# Altium schematic symbol library kmilo17pet-LT_OpAmp_LT2000.SchLib: 1710 symbols (part 9 of 75)
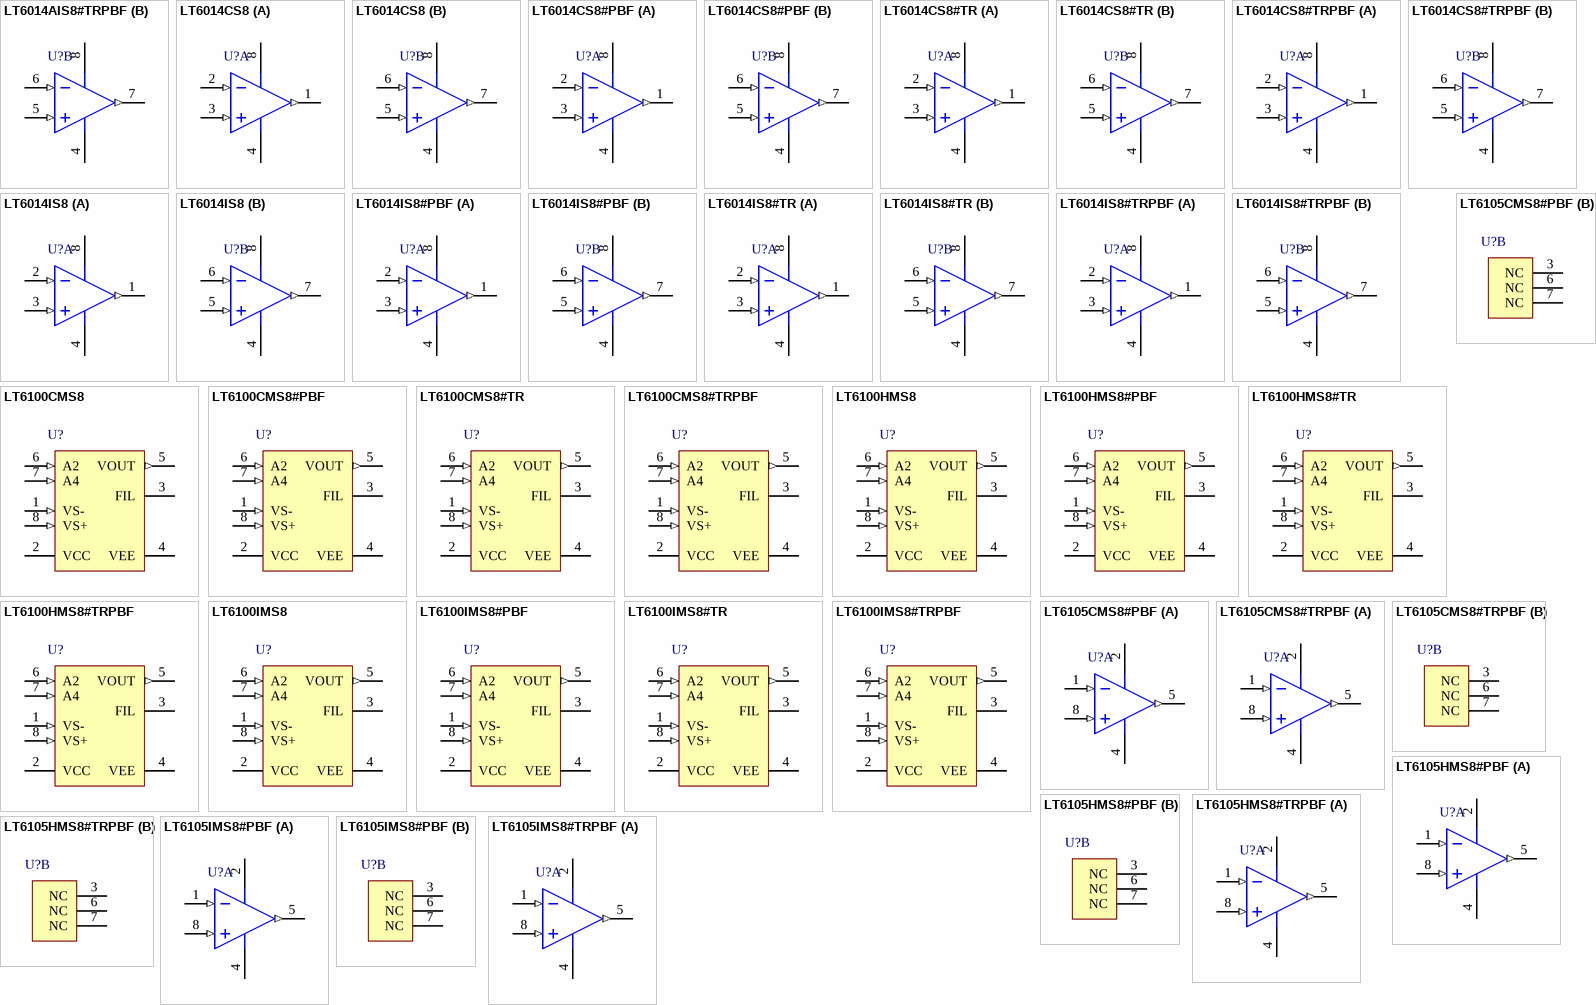
[diagram p88: symbols LT6014AIS8#TRPBF to LT6105IMS8#TRPBF]

## LT6100HMS8#TR
designator U?
Single Channel, Precision, Gain Selectable Current Sense, High Side Current Sense Operational Amplifier, 0.15 MHz Typical GBW, 2.7 to 36 V, 8-Pin SOP (MS8-8), High Temperature / Automotive, Reel; Linear Technology Part Number: LT6100; Manufacturer: Linear Technology; PartNumber: LT6100HMS8#TR; Channels (#): 1; GBW (MHz) Typical: 0.15; Is (mA) Typical: 0.06; Vos (mV) Guaranteed: 0.3; Vos (mV) Typical: 0.08; Vs Max (V): 36; Vs Min (V): 2.7; DatasheetVersion: Rev. B; PackageVersion: Rev G; PackageReference: LT-MS8-8; PackageDescription: 8-Lead Plastic Small Outline, Body 3.9 x 4.9 mm, Pitch 1.27 mm; Packing: Reel; Type: CSA; Mounting Technology: Surface Mount; ComponentLink1Description: Manufacturer URL; ComponentLink1URL: http://www.linear.com/; ComponentLink2Description: Datasheet; ComponentLink2URL: http://cds.linear.com/docs/en/datasheet/6100fb.pdf; ComponentLink3Description: Package Specification; ComponentLink3URL: http://cds.linear.com/docs/en/packaging/05081610_G_SO8.pdf
footprint LT-MS8-8_N (SOP, 8-Leads, Body 3x3mm, Pitch 0.65mm, IPC Medium Density)
footprint LT-MS8-8_L (SOP, 8-Leads, Body 3x3mm, Pitch 0.65mm, IPC High Density)
footprint LT-MS8-8_M (SOP, 8-Leads, Body 3x3mm, Pitch 0.65mm, IPC Low Density)
pins: 1 VS- (in) "Negative Sense Input Terminal. Negative sense voltage input will remain functional for voltages up to 48V. VS - is connected to an internal gain-setting resistor RG1 = 5k.", 2 VCC (power) "Supply Voltage Input. This power supply pin supplies current to both current sense amplifier and op amp.", 3 FIL "Filter Pin. Connects to an external capacitor to roll off differential noise of the system. Pole frequency f-3dB = 1/(2pRFILC), RFIL = RE + RO = 60k.", 4 VEE (power) "Negative Supply or Ground for Single Supply Operation.", 5 VOUT (out) "Voltage Output Proportional to the Magnitude of the Current Flowing Through RSENSE: VOUT = AV • (VSENSE +/- VOS) VOS is the input offset voltage. AV is the total gain of the LT6100.", 6 A2 (in) "Gain Select Pin.", 7 A4 (in) "Gain Select Pin. When Pin 7 is shorted to VEE, the total gain is 40V/V. When both Pin 6 and Pin 7 are shorted to VEE, the total gain is 50V/V. When both Pin 6 and Pin 7 are opened, the total gain is 10V/V.", 8 VS+ (in) "Positive Sense Input Terminal. Connecting a supply to VS + and a load to VS - will allow the LT6100 to monitor the current through RSENSE, refer to Figure 1. VS + is connected to an internal gain setting resistor RG2 = 5k. (See Datasheet)"

## LT6100HMS8#TRPBF
designator U?
Single Channel, Precision, Gain Selectable Current Sense, High Side Current Sense Operational Amplifier, 0.15 MHz Typical GBW, 2.7 to 36 V, 8-Pin SOP (MS8-8), High Temperature / Automotive, Pb-Free, Reel; Linear Technology Part Number: LT6100; Manufacturer: Linear Technology; PartNumber: LT6100HMS8#TRPBF; Channels (#): 1; GBW (MHz) Typical: 0.15; Is (mA) Typical: 0.06; Vos (mV) Guaranteed: 0.3; Vos (mV) Typical: 0.08; Vs Max (V): 36; Vs Min (V): 2.7; DatasheetVersion: Rev. B; PackageVersion: Rev G; PackageReference: LT-MS8-8; PackageDescription: 8-Lead Plastic Small Outline, Body 3.9 x 4.9 mm, Pitch 1.27 mm; Supplier 1: Digi-Key; Supplier Part Number 1: LT6100HMS8#TRPBF-ND; Supplier 2: Newark; Supplier Part Number 2: 57M9127; Packing: Reel; RoHS: Pb-Free; Type: CSA; Mounting Technology: Surface Mount; ComponentLink1Description: Manufacturer URL; ComponentLink1URL: http://www.linear.com/; ComponentLink2Description: Datasheet; ComponentLink2URL: http://cds.linear.com/docs/en/datasheet/6100fb.pdf; ComponentLink3Description: Package Specification; ComponentLink3URL: http://cds.linear.com/docs/en/packaging/05081610_G_SO8.pdf
footprint LT-MS8-8_N (SOP, 8-Leads, Body 3x3mm, Pitch 0.65mm, IPC Medium Density)
footprint LT-MS8-8_L (SOP, 8-Leads, Body 3x3mm, Pitch 0.65mm, IPC High Density)
footprint LT-MS8-8_M (SOP, 8-Leads, Body 3x3mm, Pitch 0.65mm, IPC Low Density)
pins: 1 VS- (in) "Negative Sense Input Terminal. Negative sense voltage input will remain functional for voltages up to 48V. VS - is connected to an internal gain-setting resistor RG1 = 5k.", 2 VCC (power) "Supply Voltage Input. This power supply pin supplies current to both current sense amplifier and op amp.", 3 FIL "Filter Pin. Connects to an external capacitor to roll off differential noise of the system. Pole frequency f-3dB = 1/(2pRFILC), RFIL = RE + RO = 60k.", 4 VEE (power) "Negative Supply or Ground for Single Supply Operation.", 5 VOUT (out) "Voltage Output Proportional to the Magnitude of the Current Flowing Through RSENSE: VOUT = AV • (VSENSE +/- VOS) VOS is the input offset voltage. AV is the total gain of the LT6100.", 6 A2 (in) "Gain Select Pin.", 7 A4 (in) "Gain Select Pin. When Pin 7 is shorted to VEE, the total gain is 40V/V. When both Pin 6 and Pin 7 are shorted to VEE, the total gain is 50V/V. When both Pin 6 and Pin 7 are opened, the total gain is 10V/V.", 8 VS+ (in) "Positive Sense Input Terminal. Connecting a supply to VS + and a load to VS - will allow the LT6100 to monitor the current through RSENSE, refer to Figure 1. VS + is connected to an internal gain setting resistor RG2 = 5k. (See Datasheet)"

## LT6100IMS8
designator U?
Single Channel, Precision, Gain Selectable Current Sense, High Side Current Sense Operational Amplifier, 0.15 MHz Typical GBW, 2.7 to 36 V, 8-Pin SOP (MS8-8), Industrial; Linear Technology Part Number: LT6100; Manufacturer: Linear Technology; PartNumber: LT6100IMS8; Channels (#): 1; GBW (MHz) Typical: 0.15; Is (mA) Typical: 0.06; Vos (mV) Guaranteed: 0.3; Vos (mV) Typical: 0.08; Vs Max (V): 36; Vs Min (V): 2.7; DatasheetVersion: Rev. B; PackageVersion: Rev G; PackageReference: LT-MS8-8; PackageDescription: 8-Lead Plastic Small Outline, Body 3.9 x 4.9 mm, Pitch 1.27 mm; Type: CSA; Mounting Technology: Surface Mount; ComponentLink1Description: Manufacturer URL; ComponentLink1URL: http://www.linear.com/; ComponentLink2Description: Datasheet; ComponentLink2URL: http://cds.linear.com/docs/en/datasheet/6100fb.pdf; ComponentLink3Description: Package Specification; ComponentLink3URL: http://cds.linear.com/docs/en/packaging/05081610_G_SO8.pdf
footprint LT-MS8-8_N (SOP, 8-Leads, Body 3x3mm, Pitch 0.65mm, IPC Medium Density)
footprint LT-MS8-8_L (SOP, 8-Leads, Body 3x3mm, Pitch 0.65mm, IPC High Density)
footprint LT-MS8-8_M (SOP, 8-Leads, Body 3x3mm, Pitch 0.65mm, IPC Low Density)
pins: 1 VS- (in) "Negative Sense Input Terminal. Negative sense voltage input will remain functional for voltages up to 48V. VS - is connected to an internal gain-setting resistor RG1 = 5k.", 2 VCC (power) "Supply Voltage Input. This power supply pin supplies current to both current sense amplifier and op amp.", 3 FIL "Filter Pin. Connects to an external capacitor to roll off differential noise of the system. Pole frequency f-3dB = 1/(2pRFILC), RFIL = RE + RO = 60k.", 4 VEE (power) "Negative Supply or Ground for Single Supply Operation.", 5 VOUT (out) "Voltage Output Proportional to the Magnitude of the Current Flowing Through RSENSE: VOUT = AV • (VSENSE +/- VOS) VOS is the input offset voltage. AV is the total gain of the LT6100.", 6 A2 (in) "Gain Select Pin.", 7 A4 (in) "Gain Select Pin. When Pin 7 is shorted to VEE, the total gain is 40V/V. When both Pin 6 and Pin 7 are shorted to VEE, the total gain is 50V/V. When both Pin 6 and Pin 7 are opened, the total gain is 10V/V.", 8 VS+ (in) "Positive Sense Input Terminal. Connecting a supply to VS + and a load to VS - will allow the LT6100 to monitor the current through RSENSE, refer to Figure 1. VS + is connected to an internal gain setting resistor RG2 = 5k. (See Datasheet)"

## LT6100IMS8#PBF
designator U?
Single Channel, Precision, Gain Selectable Current Sense, High Side Current Sense Operational Amplifier, 0.15 MHz Typical GBW, 2.7 to 36 V, 8-Pin SOP (MS8-8), Industrial, Pb-Free; Linear Technology Part Number: LT6100; Manufacturer: Linear Technology; PartNumber: LT6100IMS8#PBF; Channels (#): 1; GBW (MHz) Typical: 0.15; Is (mA) Typical: 0.06; Vos (mV) Guaranteed: 0.3; Vos (mV) Typical: 0.08; Vs Max (V): 36; Vs Min (V): 2.7; DatasheetVersion: Rev. B; PackageVersion: Rev G; PackageReference: LT-MS8-8; PackageDescription: 8-Lead Plastic Small Outline, Body 3.9 x 4.9 mm, Pitch 1.27 mm; Supplier 1: Digi-Key; Supplier Part Number 1: LT6100IMS8#PBF-ND; Supplier 2: Farnell; Supplier Part Number 2: 1417731; Supplier 3: Newark; Supplier Part Number 3: 57M9133; RoHS: Pb-Free; Type: CSA; Mounting Technology: Surface Mount; ComponentLink1Description: Manufacturer URL; ComponentLink1URL: http://www.linear.com/; ComponentLink2Description: Datasheet; ComponentLink2URL: http://cds.linear.com/docs/en/datasheet/6100fb.pdf; ComponentLink3Description: Package Specification; ComponentLink3URL: http://cds.linear.com/docs/en/packaging/05081610_G_SO8.pdf
footprint LT-MS8-8_N (SOP, 8-Leads, Body 3x3mm, Pitch 0.65mm, IPC Medium Density)
footprint LT-MS8-8_L (SOP, 8-Leads, Body 3x3mm, Pitch 0.65mm, IPC High Density)
footprint LT-MS8-8_M (SOP, 8-Leads, Body 3x3mm, Pitch 0.65mm, IPC Low Density)
pins: 1 VS- (in) "Negative Sense Input Terminal. Negative sense voltage input will remain functional for voltages up to 48V. VS - is connected to an internal gain-setting resistor RG1 = 5k.", 2 VCC (power) "Supply Voltage Input. This power supply pin supplies current to both current sense amplifier and op amp.", 3 FIL "Filter Pin. Connects to an external capacitor to roll off differential noise of the system. Pole frequency f-3dB = 1/(2pRFILC), RFIL = RE + RO = 60k.", 4 VEE (power) "Negative Supply or Ground for Single Supply Operation.", 5 VOUT (out) "Voltage Output Proportional to the Magnitude of the Current Flowing Through RSENSE: VOUT = AV • (VSENSE +/- VOS) VOS is the input offset voltage. AV is the total gain of the LT6100.", 6 A2 (in) "Gain Select Pin.", 7 A4 (in) "Gain Select Pin. When Pin 7 is shorted to VEE, the total gain is 40V/V. When both Pin 6 and Pin 7 are shorted to VEE, the total gain is 50V/V. When both Pin 6 and Pin 7 are opened, the total gain is 10V/V.", 8 VS+ (in) "Positive Sense Input Terminal. Connecting a supply to VS + and a load to VS - will allow the LT6100 to monitor the current through RSENSE, refer to Figure 1. VS + is connected to an internal gain setting resistor RG2 = 5k. (See Datasheet)"

## LT6100IMS8#TR
designator U?
Single Channel, Precision, Gain Selectable Current Sense, High Side Current Sense Operational Amplifier, 0.15 MHz Typical GBW, 2.7 to 36 V, 8-Pin SOP (MS8-8), Industrial, Reel; Linear Technology Part Number: LT6100; Manufacturer: Linear Technology; PartNumber: LT6100IMS8#TR; Channels (#): 1; GBW (MHz) Typical: 0.15; Is (mA) Typical: 0.06; Vos (mV) Guaranteed: 0.3; Vos (mV) Typical: 0.08; Vs Max (V): 36; Vs Min (V): 2.7; DatasheetVersion: Rev. B; PackageVersion: Rev G; PackageReference: LT-MS8-8; PackageDescription: 8-Lead Plastic Small Outline, Body 3.9 x 4.9 mm, Pitch 1.27 mm; Packing: Reel; Type: CSA; Mounting Technology: Surface Mount; ComponentLink1Description: Manufacturer URL; ComponentLink1URL: http://www.linear.com/; ComponentLink2Description: Datasheet; ComponentLink2URL: http://cds.linear.com/docs/en/datasheet/6100fb.pdf; ComponentLink3Description: Package Specification; ComponentLink3URL: http://cds.linear.com/docs/en/packaging/05081610_G_SO8.pdf
footprint LT-MS8-8_N (SOP, 8-Leads, Body 3x3mm, Pitch 0.65mm, IPC Medium Density)
footprint LT-MS8-8_L (SOP, 8-Leads, Body 3x3mm, Pitch 0.65mm, IPC High Density)
footprint LT-MS8-8_M (SOP, 8-Leads, Body 3x3mm, Pitch 0.65mm, IPC Low Density)
pins: 1 VS- (in) "Negative Sense Input Terminal. Negative sense voltage input will remain functional for voltages up to 48V. VS - is connected to an internal gain-setting resistor RG1 = 5k.", 2 VCC (power) "Supply Voltage Input. This power supply pin supplies current to both current sense amplifier and op amp.", 3 FIL "Filter Pin. Connects to an external capacitor to roll off differential noise of the system. Pole frequency f-3dB = 1/(2pRFILC), RFIL = RE + RO = 60k.", 4 VEE (power) "Negative Supply or Ground for Single Supply Operation.", 5 VOUT (out) "Voltage Output Proportional to the Magnitude of the Current Flowing Through RSENSE: VOUT = AV • (VSENSE +/- VOS) VOS is the input offset voltage. AV is the total gain of the LT6100.", 6 A2 (in) "Gain Select Pin.", 7 A4 (in) "Gain Select Pin. When Pin 7 is shorted to VEE, the total gain is 40V/V. When both Pin 6 and Pin 7 are shorted to VEE, the total gain is 50V/V. When both Pin 6 and Pin 7 are opened, the total gain is 10V/V.", 8 VS+ (in) "Positive Sense Input Terminal. Connecting a supply to VS + and a load to VS - will allow the LT6100 to monitor the current through RSENSE, refer to Figure 1. VS + is connected to an internal gain setting resistor RG2 = 5k. (See Datasheet)"

## LT6100IMS8#TRPBF
designator U?
Single Channel, Precision, Gain Selectable Current Sense, High Side Current Sense Operational Amplifier, 0.15 MHz Typical GBW, 2.7 to 36 V, 8-Pin SOP (MS8-8), Industrial, Pb-Free, Reel; Linear Technology Part Number: LT6100; Manufacturer: Linear Technology; PartNumber: LT6100IMS8#TRPBF; Channels (#): 1; GBW (MHz) Typical: 0.15; Is (mA) Typical: 0.06; Vos (mV) Guaranteed: 0.3; Vos (mV) Typical: 0.08; Vs Max (V): 36; Vs Min (V): 2.7; DatasheetVersion: Rev. B; PackageVersion: Rev G; PackageReference: LT-MS8-8; PackageDescription: 8-Lead Plastic Small Outline, Body 3.9 x 4.9 mm, Pitch 1.27 mm; Supplier 1: Digi-Key; Supplier Part Number 1: LT6100IMS8#TRPBF-ND; Packing: Reel; RoHS: Pb-Free; Type: CSA; Mounting Technology: Surface Mount; ComponentLink1Description: Manufacturer URL; ComponentLink1URL: http://www.linear.com/; ComponentLink2Description: Datasheet; ComponentLink2URL: http://cds.linear.com/docs/en/datasheet/6100fb.pdf; ComponentLink3Description: Package Specification; ComponentLink3URL: http://cds.linear.com/docs/en/packaging/05081610_G_SO8.pdf
footprint LT-MS8-8_N (SOP, 8-Leads, Body 3x3mm, Pitch 0.65mm, IPC Medium Density)
footprint LT-MS8-8_L (SOP, 8-Leads, Body 3x3mm, Pitch 0.65mm, IPC High Density)
footprint LT-MS8-8_M (SOP, 8-Leads, Body 3x3mm, Pitch 0.65mm, IPC Low Density)
pins: 1 VS- (in) "Negative Sense Input Terminal. Negative sense voltage input will remain functional for voltages up to 48V. VS - is connected to an internal gain-setting resistor RG1 = 5k.", 2 VCC (power) "Supply Voltage Input. This power supply pin supplies current to both current sense amplifier and op amp.", 3 FIL "Filter Pin. Connects to an external capacitor to roll off differential noise of the system. Pole frequency f-3dB = 1/(2pRFILC), RFIL = RE + RO = 60k.", 4 VEE (power) "Negative Supply or Ground for Single Supply Operation.", 5 VOUT (out) "Voltage Output Proportional to the Magnitude of the Current Flowing Through RSENSE: VOUT = AV • (VSENSE +/- VOS) VOS is the input offset voltage. AV is the total gain of the LT6100.", 6 A2 (in) "Gain Select Pin.", 7 A4 (in) "Gain Select Pin. When Pin 7 is shorted to VEE, the total gain is 40V/V. When both Pin 6 and Pin 7 are shorted to VEE, the total gain is 50V/V. When both Pin 6 and Pin 7 are opened, the total gain is 10V/V.", 8 VS+ (in) "Positive Sense Input Terminal. Connecting a supply to VS + and a load to VS - will allow the LT6100 to monitor the current through RSENSE, refer to Figure 1. VS + is connected to an internal gain setting resistor RG2 = 5k. (See Datasheet)"

## LT6105CMS8#PBF
designator U?
Single Channel, Precision, Rail-to-Rail Input Current Sense Amplifier, 0.1 MHz Typical GBW, 2.85 to 36 V, 8-Pin SOP (MS8-8), Commercial, Pb-Free; Linear Technology Part Number: LT6105; Manufacturer: Linear Technology; PartNumber: LT6105CMS8#PBF; Channels (#): 1; GBW (MHz) Typical: 0.1; Is (mA) Typical: 0.2; Vos (mV) Guaranteed: 0.3; Vs Max (V): 36; Vs Min (V): 2.85; DatasheetVersion: Rev. A; PackageVersion: Rev G; PackageReference: LT-MS8-8; PackageDescription: 8-Lead Plastic Small Outline, Body 3.9 x 4.9 mm, Pitch 1.27 mm; Supplier 1: Digi-Key; Supplier Part Number 1: LT6105CMS8#PBF-ND; Supplier 2: Farnell; Supplier Part Number 2: 1663585; Supplier 3: Newark; Supplier Part Number 3: 75M4760; RoHS: Pb-Free; Type: CSA; Vos (mV) Typical: 0.1; Mounting Technology: Surface Mount; ComponentLink1Description: Manufacturer URL; ComponentLink1URL: http://www.linear.com/; ComponentLink2Description: Datasheet; ComponentLink2URL: http://cds.linear.com/docs/en/datasheet/6105fa.pdf; ComponentLink3Description: Package Specification; ComponentLink3URL: http://cds.linear.com/docs/en/packaging/05081610_G_SO8.pdf
footprint LT-MS8-8_N (SOP, 8-Leads, Body 3x3mm, Pitch 0.65mm, IPC Medium Density)
footprint LT-MS8-8_L (SOP, 8-Leads, Body 3x3mm, Pitch 0.65mm, IPC High Density)
footprint LT-MS8-8_M (SOP, 8-Leads, Body 3x3mm, Pitch 0.65mm, IPC Low Density)
part A pins: 1 -IN (in) "Negative Sense Input Terminal. Negative sense voltage input will remain functional for voltages up to 44V, referred to V-. Connect -IN to an external gain-setting resistor RIN1 (RIN1 = RIN2) to set the gain.", 2 V+ (power) "Power Supply Voltage. This pin supplies current to the amplifi er and can operate from 2.85V to 36V, independent of the voltages on the -IN or +IN pins.", 4 V- (power) "Negative Power Supply Voltage or Ground for Single Supply Operation.", 5 VOUT (out) "Voltage Output: VOUT = AV • (VSENSE +/- VOS) VOS is the input offset voltage. AV is the gain set by external RIN1, RIN2, ROUT. AV = ROUT/RIN1, for RIN1 = RIN2.", 8 +IN (in) "Positive Sense Input Terminal. Connecting a source to VS + and a load to VS - will allow the LT6105 to monitor the current through RSENSE, refer to Figure 1. Connect +IN to an external gain-setting resistor RIN2 to set the (See Datasheet)"
part B pins: 3 NC "Not Connected Internally.", 6 NC "Not Connected Internally.", 7 NC "Not Connected Internally."

## LT6105CMS8#TRPBF
designator U?
Single Channel, Precision, Rail-to-Rail Input Current Sense Amplifier, 0.1 MHz Typical GBW, 2.85 to 36 V, 8-Pin SOP (MS8-8), Commercial, Pb-Free, Reel; Linear Technology Part Number: LT6105; Manufacturer: Linear Technology; PartNumber: LT6105CMS8#TRPBF; Channels (#): 1; GBW (MHz) Typical: 0.1; Is (mA) Typical: 0.2; Vos (mV) Guaranteed: 0.3; Vs Max (V): 36; Vs Min (V): 2.85; DatasheetVersion: Rev. A; PackageVersion: Rev G; PackageReference: LT-MS8-8; PackageDescription: 8-Lead Plastic Small Outline, Body 3.9 x 4.9 mm, Pitch 1.27 mm; Supplier 1: Digi-Key; Supplier Part Number 1: LT6105CMS8#TRPBF-ND; Supplier 2: Newark; Supplier Part Number 2: 75M4761; Packing: Reel; RoHS: Pb-Free; Type: CSA; Vos (mV) Typical: 0.1; Mounting Technology: Surface Mount; ComponentLink1Description: Manufacturer URL; ComponentLink1URL: http://www.linear.com/; ComponentLink2Description: Datasheet; ComponentLink2URL: http://cds.linear.com/docs/en/datasheet/6105fa.pdf; ComponentLink3Description: Package Specification; ComponentLink3URL: http://cds.linear.com/docs/en/packaging/05081610_G_SO8.pdf
footprint LT-MS8-8_N (SOP, 8-Leads, Body 3x3mm, Pitch 0.65mm, IPC Medium Density)
footprint LT-MS8-8_L (SOP, 8-Leads, Body 3x3mm, Pitch 0.65mm, IPC High Density)
footprint LT-MS8-8_M (SOP, 8-Leads, Body 3x3mm, Pitch 0.65mm, IPC Low Density)
part A pins: 1 -IN (in) "Negative Sense Input Terminal. Negative sense voltage input will remain functional for voltages up to 44V, referred to V-. Connect -IN to an external gain-setting resistor RIN1 (RIN1 = RIN2) to set the gain.", 2 V+ (power) "Power Supply Voltage. This pin supplies current to the amplifi er and can operate from 2.85V to 36V, independent of the voltages on the -IN or +IN pins.", 4 V- (power) "Negative Power Supply Voltage or Ground for Single Supply Operation.", 5 VOUT (out) "Voltage Output: VOUT = AV • (VSENSE +/- VOS) VOS is the input offset voltage. AV is the gain set by external RIN1, RIN2, ROUT. AV = ROUT/RIN1, for RIN1 = RIN2.", 8 +IN (in) "Positive Sense Input Terminal. Connecting a source to VS + and a load to VS - will allow the LT6105 to monitor the current through RSENSE, refer to Figure 1. Connect +IN to an external gain-setting resistor RIN2 to set the (See Datasheet)"
part B pins: 3 NC "Not Connected Internally.", 6 NC "Not Connected Internally.", 7 NC "Not Connected Internally."

## LT6105HMS8#PBF
designator U?
Single Channel, Precision, Rail-to-Rail Input Current Sense Amplifier, 0.1 MHz Typical GBW, 2.85 to 36 V, 8-Pin SOP (MS8-8), High Temperature / Automotive, Pb-Free; Linear Technology Part Number: LT6105; Manufacturer: Linear Technology; PartNumber: LT6105HMS8#PBF; Channels (#): 1; GBW (MHz) Typical: 0.1; Is (mA) Typical: 0.2; Vos (mV) Guaranteed: 0.3; Vs Max (V): 36; Vs Min (V): 2.85; DatasheetVersion: Rev. A; PackageVersion: Rev G; PackageReference: LT-MS8-8; PackageDescription: 8-Lead Plastic Small Outline, Body 3.9 x 4.9 mm, Pitch 1.27 mm; Supplier 1: Digi-Key; Supplier Part Number 1: LT6105HMS8#PBF-ND; Supplier 2: Farnell; Supplier Part Number 2: 2294752; Supplier 3: Newark; Supplier Part Number 3: 75M4762; RoHS: Pb-Free; Type: CSA; Vos (mV) Typical: 0.1; Mounting Technology: Surface Mount; ComponentLink1Description: Manufacturer URL; ComponentLink1URL: http://www.linear.com/; ComponentLink2Description: Datasheet; ComponentLink2URL: http://cds.linear.com/docs/en/datasheet/6105fa.pdf; ComponentLink3Description: Package Specification; ComponentLink3URL: http://cds.linear.com/docs/en/packaging/05081610_G_SO8.pdf
footprint LT-MS8-8_N (SOP, 8-Leads, Body 3x3mm, Pitch 0.65mm, IPC Medium Density)
footprint LT-MS8-8_L (SOP, 8-Leads, Body 3x3mm, Pitch 0.65mm, IPC High Density)
footprint LT-MS8-8_M (SOP, 8-Leads, Body 3x3mm, Pitch 0.65mm, IPC Low Density)
part A pins: 1 -IN (in) "Negative Sense Input Terminal. Negative sense voltage input will remain functional for voltages up to 44V, referred to V-. Connect -IN to an external gain-setting resistor RIN1 (RIN1 = RIN2) to set the gain.", 2 V+ (power) "Power Supply Voltage. This pin supplies current to the amplifi er and can operate from 2.85V to 36V, independent of the voltages on the -IN or +IN pins.", 4 V- (power) "Negative Power Supply Voltage or Ground for Single Supply Operation.", 5 VOUT (out) "Voltage Output: VOUT = AV • (VSENSE +/- VOS) VOS is the input offset voltage. AV is the gain set by external RIN1, RIN2, ROUT. AV = ROUT/RIN1, for RIN1 = RIN2.", 8 +IN (in) "Positive Sense Input Terminal. Connecting a source to VS + and a load to VS - will allow the LT6105 to monitor the current through RSENSE, refer to Figure 1. Connect +IN to an external gain-setting resistor RIN2 to set the (See Datasheet)"
part B pins: 3 NC "Not Connected Internally.", 6 NC "Not Connected Internally.", 7 NC "Not Connected Internally."

## LT6105HMS8#TRPBF
designator U?
Single Channel, Precision, Rail-to-Rail Input Current Sense Amplifier, 0.1 MHz Typical GBW, 2.85 to 36 V, 8-Pin SOP (MS8-8), High Temperature / Automotive, Pb-Free, Reel; Linear Technology Part Number: LT6105; Manufacturer: Linear Technology; PartNumber: LT6105HMS8#TRPBF; Channels (#): 1; GBW (MHz) Typical: 0.1; Is (mA) Typical: 0.2; Vos (mV) Guaranteed: 0.3; Vs Max (V): 36; Vs Min (V): 2.85; DatasheetVersion: Rev. A; PackageVersion: Rev G; PackageReference: LT-MS8-8; PackageDescription: 8-Lead Plastic Small Outline, Body 3.9 x 4.9 mm, Pitch 1.27 mm; Supplier 1: Digi-Key; Supplier Part Number 1: LT6105HMS8#TRPBF-ND; Packing: Reel; RoHS: Pb-Free; Type: CSA; Vos (mV) Typical: 0.1; Mounting Technology: Surface Mount; ComponentLink1Description: Manufacturer URL; ComponentLink1URL: http://www.linear.com/; ComponentLink2Description: Datasheet; ComponentLink2URL: http://cds.linear.com/docs/en/datasheet/6105fa.pdf; ComponentLink3Description: Package Specification; ComponentLink3URL: http://cds.linear.com/docs/en/packaging/05081610_G_SO8.pdf
footprint LT-MS8-8_N (SOP, 8-Leads, Body 3x3mm, Pitch 0.65mm, IPC Medium Density)
footprint LT-MS8-8_L (SOP, 8-Leads, Body 3x3mm, Pitch 0.65mm, IPC High Density)
footprint LT-MS8-8_M (SOP, 8-Leads, Body 3x3mm, Pitch 0.65mm, IPC Low Density)
part A pins: 1 -IN (in) "Negative Sense Input Terminal. Negative sense voltage input will remain functional for voltages up to 44V, referred to V-. Connect -IN to an external gain-setting resistor RIN1 (RIN1 = RIN2) to set the gain.", 2 V+ (power) "Power Supply Voltage. This pin supplies current to the amplifi er and can operate from 2.85V to 36V, independent of the voltages on the -IN or +IN pins.", 4 V- (power) "Negative Power Supply Voltage or Ground for Single Supply Operation.", 5 VOUT (out) "Voltage Output: VOUT = AV • (VSENSE +/- VOS) VOS is the input offset voltage. AV is the gain set by external RIN1, RIN2, ROUT. AV = ROUT/RIN1, for RIN1 = RIN2.", 8 +IN (in) "Positive Sense Input Terminal. Connecting a source to VS + and a load to VS - will allow the LT6105 to monitor the current through RSENSE, refer to Figure 1. Connect +IN to an external gain-setting resistor RIN2 to set the (See Datasheet)"
part B pins: 3 NC "Not Connected Internally.", 6 NC "Not Connected Internally.", 7 NC "Not Connected Internally."

## LT6105IMS8#PBF
designator U?
Single Channel, Precision, Rail-to-Rail Input Current Sense Amplifier, 0.1 MHz Typical GBW, 2.85 to 36 V, 8-Pin SOP (MS8-8), Industrial, Pb-Free; Linear Technology Part Number: LT6105; Manufacturer: Linear Technology; PartNumber: LT6105IMS8#PBF; Channels (#): 1; GBW (MHz) Typical: 0.1; Is (mA) Typical: 0.2; Vos (mV) Guaranteed: 0.3; Vs Max (V): 36; Vs Min (V): 2.85; DatasheetVersion: Rev. A; PackageVersion: Rev G; PackageReference: LT-MS8-8; PackageDescription: 8-Lead Plastic Small Outline, Body 3.9 x 4.9 mm, Pitch 1.27 mm; Supplier 1: Digi-Key; Supplier Part Number 1: LT6105IMS8#PBF-ND; Supplier 2: Farnell; Supplier Part Number 2: 2294753; Supplier 3: Newark; Supplier Part Number 3: 75M4764; RoHS: Pb-Free; Type: CSA; Vos (mV) Typical: 0.1; Mounting Technology: Surface Mount; ComponentLink1Description: Manufacturer URL; ComponentLink1URL: http://www.linear.com/; ComponentLink2Description: Datasheet; ComponentLink2URL: http://cds.linear.com/docs/en/datasheet/6105fa.pdf; ComponentLink3Description: Package Specification; ComponentLink3URL: http://cds.linear.com/docs/en/packaging/05081610_G_SO8.pdf
footprint LT-MS8-8_N (SOP, 8-Leads, Body 3x3mm, Pitch 0.65mm, IPC Medium Density)
footprint LT-MS8-8_L (SOP, 8-Leads, Body 3x3mm, Pitch 0.65mm, IPC High Density)
footprint LT-MS8-8_M (SOP, 8-Leads, Body 3x3mm, Pitch 0.65mm, IPC Low Density)
part A pins: 1 -IN (in) "Negative Sense Input Terminal. Negative sense voltage input will remain functional for voltages up to 44V, referred to V-. Connect -IN to an external gain-setting resistor RIN1 (RIN1 = RIN2) to set the gain.", 2 V+ (power) "Power Supply Voltage. This pin supplies current to the amplifi er and can operate from 2.85V to 36V, independent of the voltages on the -IN or +IN pins.", 4 V- (power) "Negative Power Supply Voltage or Ground for Single Supply Operation.", 5 VOUT (out) "Voltage Output: VOUT = AV • (VSENSE +/- VOS) VOS is the input offset voltage. AV is the gain set by external RIN1, RIN2, ROUT. AV = ROUT/RIN1, for RIN1 = RIN2.", 8 +IN (in) "Positive Sense Input Terminal. Connecting a source to VS + and a load to VS - will allow the LT6105 to monitor the current through RSENSE, refer to Figure 1. Connect +IN to an external gain-setting resistor RIN2 to set the (See Datasheet)"
part B pins: 3 NC "Not Connected Internally.", 6 NC "Not Connected Internally.", 7 NC "Not Connected Internally."

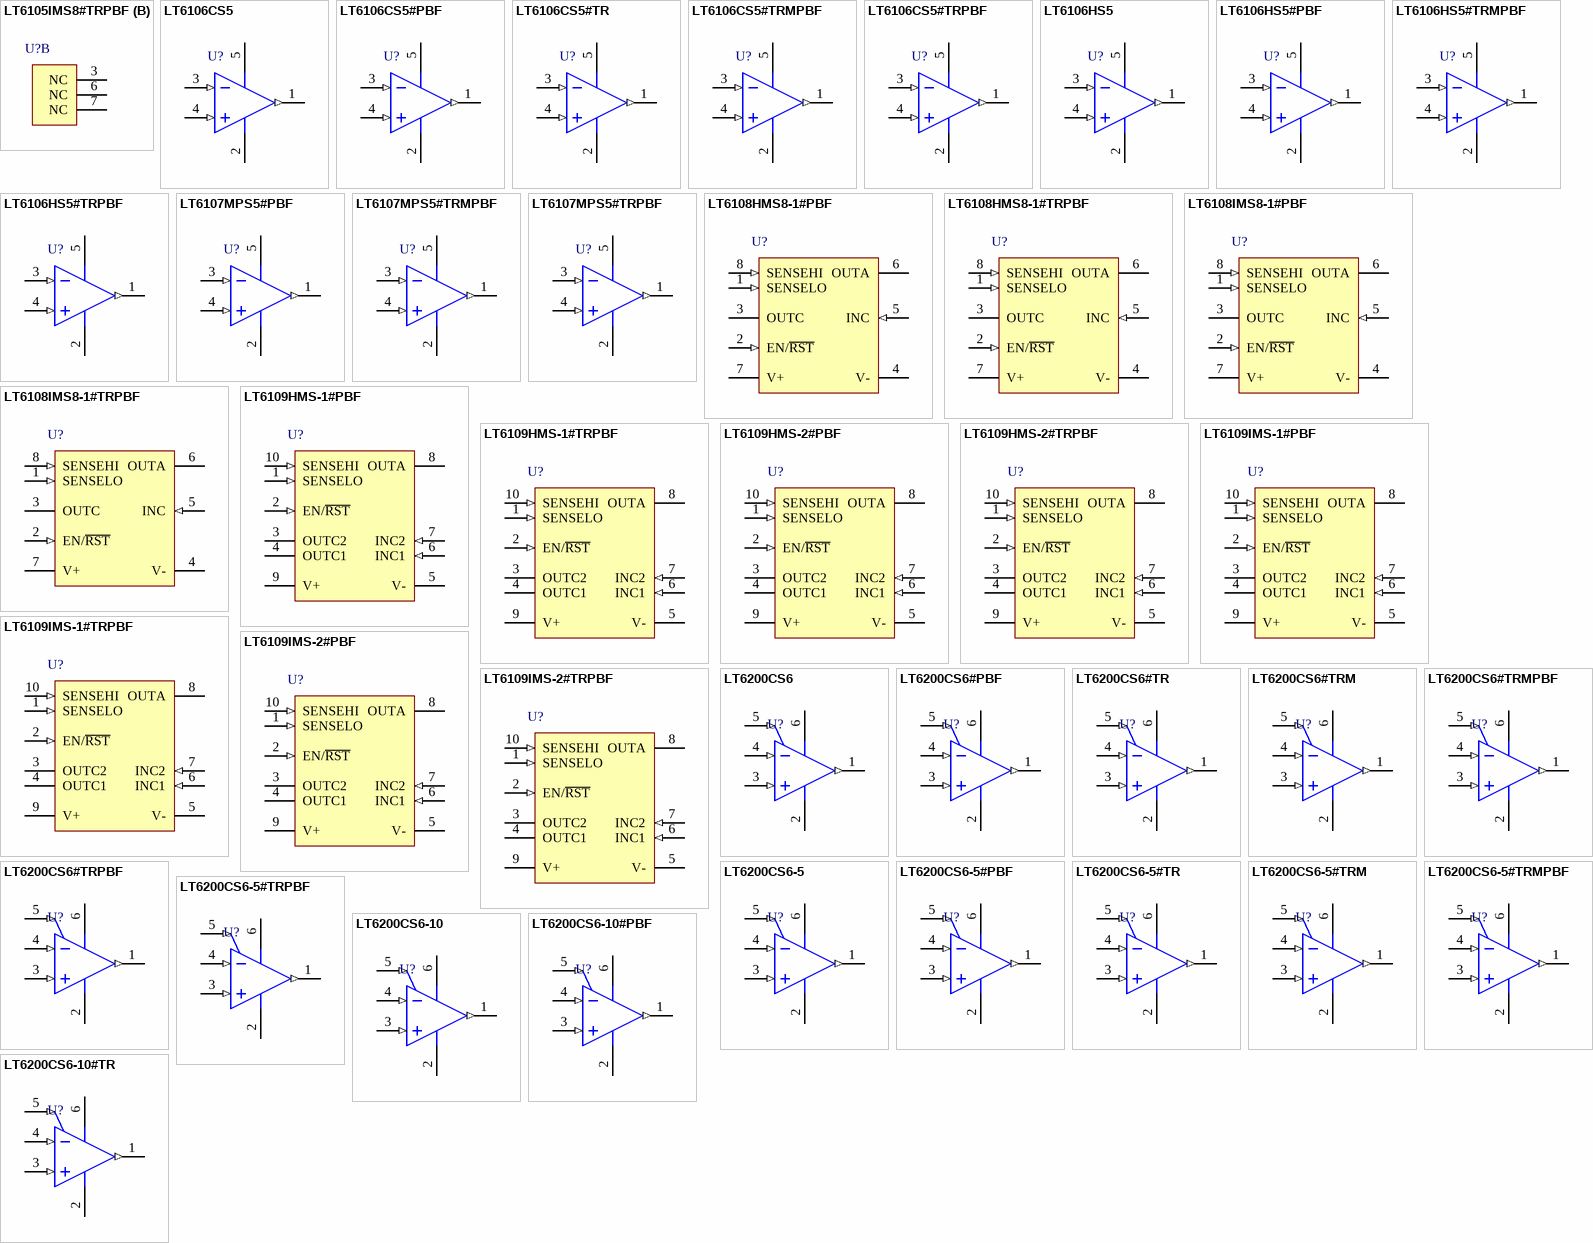
[diagram p16: symbols LT6105IMS8#TRPBF to LT6200CS6-10#TR]

## LT6105IMS8#TRPBF
designator U?
Single Channel, Precision, Rail-to-Rail Input Current Sense Amplifier, 0.1 MHz Typical GBW, 2.85 to 36 V, 8-Pin SOP (MS8-8), Industrial, Pb-Free, Reel; Linear Technology Part Number: LT6105; Manufacturer: Linear Technology; PartNumber: LT6105IMS8#TRPBF; Channels (#): 1; GBW (MHz) Typical: 0.1; Is (mA) Typical: 0.2; Vos (mV) Guaranteed: 0.3; Vs Max (V): 36; Vs Min (V): 2.85; DatasheetVersion: Rev. A; PackageVersion: Rev G; PackageReference: LT-MS8-8; PackageDescription: 8-Lead Plastic Small Outline, Body 3.9 x 4.9 mm, Pitch 1.27 mm; Supplier 1: Digi-Key; Supplier Part Number 1: LT6105IMS8#TRPBF-ND; Supplier 2: Newark; Supplier Part Number 2: 75M4765; Packing: Reel; RoHS: Pb-Free; Type: CSA; Vos (mV) Typical: 0.1; Mounting Technology: Surface Mount; ComponentLink1Description: Manufacturer URL; ComponentLink1URL: http://www.linear.com/; ComponentLink2Description: Datasheet; ComponentLink2URL: http://cds.linear.com/docs/en/datasheet/6105fa.pdf; ComponentLink3Description: Package Specification; ComponentLink3URL: http://cds.linear.com/docs/en/packaging/05081610_G_SO8.pdf
footprint LT-MS8-8_N (SOP, 8-Leads, Body 3x3mm, Pitch 0.65mm, IPC Medium Density)
footprint LT-MS8-8_L (SOP, 8-Leads, Body 3x3mm, Pitch 0.65mm, IPC High Density)
footprint LT-MS8-8_M (SOP, 8-Leads, Body 3x3mm, Pitch 0.65mm, IPC Low Density)
part A pins: 1 -IN (in) "Negative Sense Input Terminal. Negative sense voltage input will remain functional for voltages up to 44V, referred to V-. Connect -IN to an external gain-setting resistor RIN1 (RIN1 = RIN2) to set the gain.", 2 V+ (power) "Power Supply Voltage. This pin supplies current to the amplifi er and can operate from 2.85V to 36V, independent of the voltages on the -IN or +IN pins.", 4 V- (power) "Negative Power Supply Voltage or Ground for Single Supply Operation.", 5 VOUT (out) "Voltage Output: VOUT = AV • (VSENSE +/- VOS) VOS is the input offset voltage. AV is the gain set by external RIN1, RIN2, ROUT. AV = ROUT/RIN1, for RIN1 = RIN2.", 8 +IN (in) "Positive Sense Input Terminal. Connecting a source to VS + and a load to VS - will allow the LT6105 to monitor the current through RSENSE, refer to Figure 1. Connect +IN to an external gain-setting resistor RIN2 to set the (See Datasheet)"
part B pins: 3 NC "Not Connected Internally.", 6 NC "Not Connected Internally.", 7 NC "Not Connected Internally."

## LT6106CS5
designator U?
Single Channel, Low Cost, High Side Current Sense Operational Amplifier, 0.2 MHz Typical GBW, 5-Pin SOT-23 (S5-5), Commercial; Linear Technology Part Number: LT6106; Manufacturer: Linear Technology; PartNumber: LT6106CS5; Channels (#): 1; GBW (MHz) Typical: 0.2; Is (mA) Typical: 0.06; Vos (mV) Guaranteed: 0.25; Vos (mV) Typical: 0.15; Vs Max (V): 36; Vs Min (V): 2.7; DatasheetVersion: Rev. A; PackageReference: LT-S5-5-TSOT-23; PackageDescription: 5-Lead Plastic TSOT-23, Body 1.63 x 2.90 mm, Pitch 0.95 mm; Type: CSA; Mounting Technology: Surface Mount; Code_JEDEC: MO-193; ComponentLink1Description: Manufacturer URL; ComponentLink1URL: http://www.linear.com/; ComponentLink2Description: Datasheet; ComponentLink2URL: http://cds.linear.com/docs/en/datasheet/6106fa.pdf; ComponentLink3Description: Package Specification; ComponentLink3URL: http://cds.linear.com/docs/en/packaging/SOT_5_05-08-1635.pdf
footprint LT-S5-5-TSOT-23_N (SOT23, 5-Leads, Body 2.90x1.63mm, Pitch 0.95mm, IPC Medium Density)
footprint LT-S5-5-TSOT-23_L (SOT23, 5-Leads, Body 2.90x1.63mm, Pitch 0.95mm, IPC High Density)
footprint LT-S5-5-TSOT-23_M (SOT23, 5-Leads, Body 2.90x1.63mm, Pitch 0.95mm, IPC Low Density)
pins: 1 OUT (out) "Current Output. OUT will source a current that is proportional to the sense voltage into an external resistor", 2 V- (power) "Normally Connected to Ground", 3 -IN (in) "The internal sense amplifi er will drive -IN to the same potential as +IN. A resistor (RIN) tied from V+ to -IN sets the output current IOUT = VSENSE/RIN. VSENSE is the voltage developed across RSENSE", 4 +IN (in) "Must be tied to the system load end of the sense resistor, either directly or through a resistor", 5 V+ (power) "Positive Supply Pin. The V+ pin should be connected directly to either side of the sense resistor, RSENSE. Supply current is drawn through this pin. The circuit may be confi gured so that the LT6106 supply current is or is (See Datasheet)"

## LT6106CS5#PBF
designator U?
Single Channel, Low Cost, High Side Current Sense Operational Amplifier, 0.2 MHz Typical GBW, 5-Pin SOT-23 (S5-5), Commercial, Pb-Free; Linear Technology Part Number: LT6106; Manufacturer: Linear Technology; PartNumber: LT6106CS5#PBF; Channels (#): 1; GBW (MHz) Typical: 0.2; Is (mA) Typical: 0.06; Vos (mV) Guaranteed: 0.25; Vos (mV) Typical: 0.15; Vs Max (V): 36; Vs Min (V): 2.7; DatasheetVersion: Rev. A; PackageReference: LT-S5-5-TSOT-23; PackageDescription: 5-Lead Plastic TSOT-23, Body 1.63 x 2.90 mm, Pitch 0.95 mm; Supplier 1: Farnell; Supplier Part Number 1: 1651889; Supplier 2: Farnell; Supplier Part Number 2: 1651889RL; Supplier 3: Newark; Supplier Part Number 3: 61M3378; RoHS: Pb-Free; Type: CSA; Mounting Technology: Surface Mount; Code_JEDEC: MO-193; ComponentLink1Description: Manufacturer URL; ComponentLink1URL: http://www.linear.com/; ComponentLink2Description: Datasheet; ComponentLink2URL: http://cds.linear.com/docs/en/datasheet/6106fa.pdf; ComponentLink3Description: Package Specification; ComponentLink3URL: http://cds.linear.com/docs/en/packaging/SOT_5_05-08-1635.pdf
footprint LT-S5-5-TSOT-23_N (SOT23, 5-Leads, Body 2.90x1.63mm, Pitch 0.95mm, IPC Medium Density)
footprint LT-S5-5-TSOT-23_L (SOT23, 5-Leads, Body 2.90x1.63mm, Pitch 0.95mm, IPC High Density)
footprint LT-S5-5-TSOT-23_M (SOT23, 5-Leads, Body 2.90x1.63mm, Pitch 0.95mm, IPC Low Density)
pins: 1 OUT (out) "Current Output. OUT will source a current that is proportional to the sense voltage into an external resistor", 2 V- (power) "Normally Connected to Ground", 3 -IN (in) "The internal sense amplifi er will drive -IN to the same potential as +IN. A resistor (RIN) tied from V+ to -IN sets the output current IOUT = VSENSE/RIN. VSENSE is the voltage developed across RSENSE", 4 +IN (in) "Must be tied to the system load end of the sense resistor, either directly or through a resistor", 5 V+ (power) "Positive Supply Pin. The V+ pin should be connected directly to either side of the sense resistor, RSENSE. Supply current is drawn through this pin. The circuit may be confi gured so that the LT6106 supply current is or is (See Datasheet)"

## LT6106CS5#TR
designator U?
Single Channel, Low Cost, High Side Current Sense Operational Amplifier, 0.2 MHz Typical GBW, 5-Pin SOT-23 (S5-5), Commercial, Reel; Linear Technology Part Number: LT6106; Manufacturer: Linear Technology; PartNumber: LT6106CS5#TR; Channels (#): 1; GBW (MHz) Typical: 0.2; Is (mA) Typical: 0.06; Vos (mV) Guaranteed: 0.25; Vos (mV) Typical: 0.15; Vs Max (V): 36; Vs Min (V): 2.7; DatasheetVersion: Rev. A; PackageReference: LT-S5-5-TSOT-23; PackageDescription: 5-Lead Plastic TSOT-23, Body 1.63 x 2.90 mm, Pitch 0.95 mm; Packing: Reel; Type: CSA; Mounting Technology: Surface Mount; Code_JEDEC: MO-193; ComponentLink1Description: Manufacturer URL; ComponentLink1URL: http://www.linear.com/; ComponentLink2Description: Datasheet; ComponentLink2URL: http://cds.linear.com/docs/en/datasheet/6106fa.pdf; ComponentLink3Description: Package Specification; ComponentLink3URL: http://cds.linear.com/docs/en/packaging/SOT_5_05-08-1635.pdf
footprint LT-S5-5-TSOT-23_N (SOT23, 5-Leads, Body 2.90x1.63mm, Pitch 0.95mm, IPC Medium Density)
footprint LT-S5-5-TSOT-23_L (SOT23, 5-Leads, Body 2.90x1.63mm, Pitch 0.95mm, IPC High Density)
footprint LT-S5-5-TSOT-23_M (SOT23, 5-Leads, Body 2.90x1.63mm, Pitch 0.95mm, IPC Low Density)
pins: 1 OUT (out) "Current Output. OUT will source a current that is proportional to the sense voltage into an external resistor", 2 V- (power) "Normally Connected to Ground", 3 -IN (in) "The internal sense amplifi er will drive -IN to the same potential as +IN. A resistor (RIN) tied from V+ to -IN sets the output current IOUT = VSENSE/RIN. VSENSE is the voltage developed across RSENSE", 4 +IN (in) "Must be tied to the system load end of the sense resistor, either directly or through a resistor", 5 V+ (power) "Positive Supply Pin. The V+ pin should be connected directly to either side of the sense resistor, RSENSE. Supply current is drawn through this pin. The circuit may be confi gured so that the LT6106 supply current is or is (See Datasheet)"

## LT6106CS5#TRMPBF
designator U?
Single Channel, Low Cost, High Side Current Sense Operational Amplifier, 0.2 MHz Typical GBW, 5-Pin SOT-23 (S5-5), Commercial, Pb-Free, Mini Reel; Linear Technology Part Number: LT6106; Manufacturer: Linear Technology; PartNumber: LT6106CS5#TRMPBF; Channels (#): 1; GBW (MHz) Typical: 0.2; Is (mA) Typical: 0.06; Vos (mV) Guaranteed: 0.25; Vos (mV) Typical: 0.15; Vs Max (V): 36; Vs Min (V): 2.7; DatasheetVersion: Rev. A; PackageReference: LT-S5-5-TSOT-23; PackageDescription: 5-Lead Plastic TSOT-23, Body 1.63 x 2.90 mm, Pitch 0.95 mm; Supplier 1: Digi-Key; Supplier Part Number 1: LT6106CS5#TRMPBFTR-ND; Supplier 2: Digi-Key; Supplier Part Number 2: LT6106CS5#TRMPBFCT-ND; Supplier 3: Digi-Key; Supplier Part Number 3: LT6106CS5#TRMPBFDKR-ND; Supplier 4: Farnell; Supplier Part Number 4: 1663841RL; Supplier 5: Farnell; Supplier Part Number 5: 1663841; Supplier 6: Newark; Supplier Part Number 6: 57M9136; Packing: Mini Reel; RoHS: Pb-Free; Type: CSA; Mounting Technology: Surface Mount; Code_JEDEC: MO-193; ComponentLink1Description: Manufacturer URL; ComponentLink1URL: http://www.linear.com/; ComponentLink2Description: Datasheet; ComponentLink2URL: http://cds.linear.com/docs/en/datasheet/6106fa.pdf; ComponentLink3Description: Package Specification; ComponentLink3URL: http://cds.linear.com/docs/en/packaging/SOT_5_05-08-1635.pdf
footprint LT-S5-5-TSOT-23_N (SOT23, 5-Leads, Body 2.90x1.63mm, Pitch 0.95mm, IPC Medium Density)
footprint LT-S5-5-TSOT-23_L (SOT23, 5-Leads, Body 2.90x1.63mm, Pitch 0.95mm, IPC High Density)
footprint LT-S5-5-TSOT-23_M (SOT23, 5-Leads, Body 2.90x1.63mm, Pitch 0.95mm, IPC Low Density)
pins: 1 OUT (out) "Current Output. OUT will source a current that is proportional to the sense voltage into an external resistor", 2 V- (power) "Normally Connected to Ground", 3 -IN (in) "The internal sense amplifi er will drive -IN to the same potential as +IN. A resistor (RIN) tied from V+ to -IN sets the output current IOUT = VSENSE/RIN. VSENSE is the voltage developed across RSENSE", 4 +IN (in) "Must be tied to the system load end of the sense resistor, either directly or through a resistor", 5 V+ (power) "Positive Supply Pin. The V+ pin should be connected directly to either side of the sense resistor, RSENSE. Supply current is drawn through this pin. The circuit may be confi gured so that the LT6106 supply current is or is (See Datasheet)"

## LT6106CS5#TRPBF
designator U?
Single Channel, Low Cost, High Side Current Sense Operational Amplifier, 0.2 MHz Typical GBW, 5-Pin SOT-23 (S5-5), Commercial, Pb-Free, Reel; Linear Technology Part Number: LT6106; Manufacturer: Linear Technology; PartNumber: LT6106CS5#TRPBF; Channels (#): 1; GBW (MHz) Typical: 0.2; Is (mA) Typical: 0.06; Vos (mV) Guaranteed: 0.25; Vos (mV) Typical: 0.15; Vs Max (V): 36; Vs Min (V): 2.7; DatasheetVersion: Rev. A; PackageReference: LT-S5-5-TSOT-23; PackageDescription: 5-Lead Plastic TSOT-23, Body 1.63 x 2.90 mm, Pitch 0.95 mm; Supplier 1: Digi-Key; Supplier Part Number 1: LT6106CS5#TRPBF-ND; Supplier 2: Newark; Supplier Part Number 2: 57M9137; Packing: Reel; RoHS: Pb-Free; Type: CSA; Mounting Technology: Surface Mount; Code_JEDEC: MO-193; ComponentLink1Description: Manufacturer URL; ComponentLink1URL: http://www.linear.com/; ComponentLink2Description: Datasheet; ComponentLink2URL: http://cds.linear.com/docs/en/datasheet/6106fa.pdf; ComponentLink3Description: Package Specification; ComponentLink3URL: http://cds.linear.com/docs/en/packaging/SOT_5_05-08-1635.pdf
footprint LT-S5-5-TSOT-23_N (SOT23, 5-Leads, Body 2.90x1.63mm, Pitch 0.95mm, IPC Medium Density)
footprint LT-S5-5-TSOT-23_L (SOT23, 5-Leads, Body 2.90x1.63mm, Pitch 0.95mm, IPC High Density)
footprint LT-S5-5-TSOT-23_M (SOT23, 5-Leads, Body 2.90x1.63mm, Pitch 0.95mm, IPC Low Density)
pins: 1 OUT (out) "Current Output. OUT will source a current that is proportional to the sense voltage into an external resistor", 2 V- (power) "Normally Connected to Ground", 3 -IN (in) "The internal sense amplifi er will drive -IN to the same potential as +IN. A resistor (RIN) tied from V+ to -IN sets the output current IOUT = VSENSE/RIN. VSENSE is the voltage developed across RSENSE", 4 +IN (in) "Must be tied to the system load end of the sense resistor, either directly or through a resistor", 5 V+ (power) "Positive Supply Pin. The V+ pin should be connected directly to either side of the sense resistor, RSENSE. Supply current is drawn through this pin. The circuit may be confi gured so that the LT6106 supply current is or is (See Datasheet)"

## LT6106HS5
designator U?
Single Channel, Low Cost, High Side Current Sense Operational Amplifier, 0.2 MHz Typical GBW, 5-Pin SOT-23 (S5-5), High Temperature / Automotive; Linear Technology Part Number: LT6106; Manufacturer: Linear Technology; PartNumber: LT6106HS5; Channels (#): 1; GBW (MHz) Typical: 0.2; Is (mA) Typical: 0.06; Vos (mV) Guaranteed: 0.25; Vos (mV) Typical: 0.15; Vs Max (V): 36; Vs Min (V): 2.7; DatasheetVersion: Rev. A; PackageReference: LT-S5-5-TSOT-23; PackageDescription: 5-Lead Plastic TSOT-23, Body 1.63 x 2.90 mm, Pitch 0.95 mm; Type: CSA; Mounting Technology: Surface Mount; Code_JEDEC: MO-193; ComponentLink1Description: Manufacturer URL; ComponentLink1URL: http://www.linear.com/; ComponentLink2Description: Datasheet; ComponentLink2URL: http://cds.linear.com/docs/en/datasheet/6106fa.pdf; ComponentLink3Description: Package Specification; ComponentLink3URL: http://cds.linear.com/docs/en/packaging/SOT_5_05-08-1635.pdf
footprint LT-S5-5-TSOT-23_N (SOT23, 5-Leads, Body 2.90x1.63mm, Pitch 0.95mm, IPC Medium Density)
footprint LT-S5-5-TSOT-23_L (SOT23, 5-Leads, Body 2.90x1.63mm, Pitch 0.95mm, IPC High Density)
footprint LT-S5-5-TSOT-23_M (SOT23, 5-Leads, Body 2.90x1.63mm, Pitch 0.95mm, IPC Low Density)
pins: 1 OUT (out) "Current Output. OUT will source a current that is proportional to the sense voltage into an external resistor", 2 V- (power) "Normally Connected to Ground", 3 -IN (in) "The internal sense amplifi er will drive -IN to the same potential as +IN. A resistor (RIN) tied from V+ to -IN sets the output current IOUT = VSENSE/RIN. VSENSE is the voltage developed across RSENSE", 4 +IN (in) "Must be tied to the system load end of the sense resistor, either directly or through a resistor", 5 V+ (power) "Positive Supply Pin. The V+ pin should be connected directly to either side of the sense resistor, RSENSE. Supply current is drawn through this pin. The circuit may be confi gured so that the LT6106 supply current is or is (See Datasheet)"

## LT6106HS5#PBF
designator U?
Single Channel, Low Cost, High Side Current Sense Operational Amplifier, 0.2 MHz Typical GBW, 5-Pin SOT-23 (S5-5), High Temperature / Automotive, Pb-Free; Linear Technology Part Number: LT6106; Manufacturer: Linear Technology; PartNumber: LT6106HS5#PBF; Channels (#): 1; GBW (MHz) Typical: 0.2; Is (mA) Typical: 0.06; Vos (mV) Guaranteed: 0.25; Vos (mV) Typical: 0.15; Vs Max (V): 36; Vs Min (V): 2.7; DatasheetVersion: Rev. A; PackageReference: LT-S5-5-TSOT-23; PackageDescription: 5-Lead Plastic TSOT-23, Body 1.63 x 2.90 mm, Pitch 0.95 mm; Supplier 1: Farnell; Supplier Part Number 1: 1432117RL; Supplier 2: Farnell; Supplier Part Number 2: 1432117; Supplier 3: Newark; Supplier Part Number 3: 61R9528; RoHS: Pb-Free; Type: CSA; Mounting Technology: Surface Mount; Code_JEDEC: MO-193; ComponentLink1Description: Manufacturer URL; ComponentLink1URL: http://www.linear.com/; ComponentLink2Description: Datasheet; ComponentLink2URL: http://cds.linear.com/docs/en/datasheet/6106fa.pdf; ComponentLink3Description: Package Specification; ComponentLink3URL: http://cds.linear.com/docs/en/packaging/SOT_5_05-08-1635.pdf
footprint LT-S5-5-TSOT-23_N (SOT23, 5-Leads, Body 2.90x1.63mm, Pitch 0.95mm, IPC Medium Density)
footprint LT-S5-5-TSOT-23_L (SOT23, 5-Leads, Body 2.90x1.63mm, Pitch 0.95mm, IPC High Density)
footprint LT-S5-5-TSOT-23_M (SOT23, 5-Leads, Body 2.90x1.63mm, Pitch 0.95mm, IPC Low Density)
pins: 1 OUT (out) "Current Output. OUT will source a current that is proportional to the sense voltage into an external resistor", 2 V- (power) "Normally Connected to Ground", 3 -IN (in) "The internal sense amplifi er will drive -IN to the same potential as +IN. A resistor (RIN) tied from V+ to -IN sets the output current IOUT = VSENSE/RIN. VSENSE is the voltage developed across RSENSE", 4 +IN (in) "Must be tied to the system load end of the sense resistor, either directly or through a resistor", 5 V+ (power) "Positive Supply Pin. The V+ pin should be connected directly to either side of the sense resistor, RSENSE. Supply current is drawn through this pin. The circuit may be confi gured so that the LT6106 supply current is or is (See Datasheet)"

## LT6106HS5#TRMPBF
designator U?
Single Channel, Low Cost, High Side Current Sense Operational Amplifier, 0.2 MHz Typical GBW, 5-Pin SOT-23 (S5-5), High Temperature / Automotive, Pb-Free, Mini Reel; Linear Technology Part Number: LT6106; Manufacturer: Linear Technology; PartNumber: LT6106HS5#TRMPBF; Channels (#): 1; GBW (MHz) Typical: 0.2; Is (mA) Typical: 0.06; Vos (mV) Guaranteed: 0.25; Vos (mV) Typical: 0.15; Vs Max (V): 36; Vs Min (V): 2.7; DatasheetVersion: Rev. A; PackageReference: LT-S5-5-TSOT-23; PackageDescription: 5-Lead Plastic TSOT-23, Body 1.63 x 2.90 mm, Pitch 0.95 mm; Supplier 1: Digi-Key; Supplier Part Number 1: LT6106HS5#TRMPBFTR-ND; Supplier 2: Digi-Key; Supplier Part Number 2: LT6106HS5#TRMPBFCT-ND; Supplier 3: Digi-Key; Supplier Part Number 3: LT6106HS5#TRMPBFDKR-ND; Supplier 4: Farnell; Supplier Part Number 4: 1663842; Supplier 5: Farnell; Supplier Part Number 5: 1663842RL; Supplier 6: Newark; Supplier Part Number 6: 57M9138; Packing: Mini Reel; RoHS: Pb-Free; Type: CSA; Mounting Technology: Surface Mount; Code_JEDEC: MO-193; ComponentLink1Description: Manufacturer URL; ComponentLink1URL: http://www.linear.com/; ComponentLink2Description: Datasheet; ComponentLink2URL: http://cds.linear.com/docs/en/datasheet/6106fa.pdf; ComponentLink3Description: Package Specification; ComponentLink3URL: http://cds.linear.com/docs/en/packaging/SOT_5_05-08-1635.pdf
footprint LT-S5-5-TSOT-23_N (SOT23, 5-Leads, Body 2.90x1.63mm, Pitch 0.95mm, IPC Medium Density)
footprint LT-S5-5-TSOT-23_L (SOT23, 5-Leads, Body 2.90x1.63mm, Pitch 0.95mm, IPC High Density)
footprint LT-S5-5-TSOT-23_M (SOT23, 5-Leads, Body 2.90x1.63mm, Pitch 0.95mm, IPC Low Density)
pins: 1 OUT (out) "Current Output. OUT will source a current that is proportional to the sense voltage into an external resistor", 2 V- (power) "Normally Connected to Ground", 3 -IN (in) "The internal sense amplifi er will drive -IN to the same potential as +IN. A resistor (RIN) tied from V+ to -IN sets the output current IOUT = VSENSE/RIN. VSENSE is the voltage developed across RSENSE", 4 +IN (in) "Must be tied to the system load end of the sense resistor, either directly or through a resistor", 5 V+ (power) "Positive Supply Pin. The V+ pin should be connected directly to either side of the sense resistor, RSENSE. Supply current is drawn through this pin. The circuit may be confi gured so that the LT6106 supply current is or is (See Datasheet)"

## LT6106HS5#TRPBF
designator U?
Single Channel, Low Cost, High Side Current Sense Operational Amplifier, 0.2 MHz Typical GBW, 5-Pin SOT-23 (S5-5), High Temperature / Automotive, Pb-Free, Reel; Linear Technology Part Number: LT6106; Manufacturer: Linear Technology; PartNumber: LT6106HS5#TRPBF; Channels (#): 1; GBW (MHz) Typical: 0.2; Is (mA) Typical: 0.06; Vos (mV) Guaranteed: 0.25; Vos (mV) Typical: 0.15; Vs Max (V): 36; Vs Min (V): 2.7; DatasheetVersion: Rev. A; PackageReference: LT-S5-5-TSOT-23; PackageDescription: 5-Lead Plastic TSOT-23, Body 1.63 x 2.90 mm, Pitch 0.95 mm; Supplier 1: Digi-Key; Supplier Part Number 1: LT6106HS5#TRPBF-ND; Supplier 2: Newark; Supplier Part Number 2: 57M9139; Packing: Reel; RoHS: Pb-Free; Type: CSA; Mounting Technology: Surface Mount; Code_JEDEC: MO-193; ComponentLink1Description: Manufacturer URL; ComponentLink1URL: http://www.linear.com/; ComponentLink2Description: Datasheet; ComponentLink2URL: http://cds.linear.com/docs/en/datasheet/6106fa.pdf; ComponentLink3Description: Package Specification; ComponentLink3URL: http://cds.linear.com/docs/en/packaging/SOT_5_05-08-1635.pdf
footprint LT-S5-5-TSOT-23_N (SOT23, 5-Leads, Body 2.90x1.63mm, Pitch 0.95mm, IPC Medium Density)
footprint LT-S5-5-TSOT-23_L (SOT23, 5-Leads, Body 2.90x1.63mm, Pitch 0.95mm, IPC High Density)
footprint LT-S5-5-TSOT-23_M (SOT23, 5-Leads, Body 2.90x1.63mm, Pitch 0.95mm, IPC Low Density)
pins: 1 OUT (out) "Current Output. OUT will source a current that is proportional to the sense voltage into an external resistor", 2 V- (power) "Normally Connected to Ground", 3 -IN (in) "The internal sense amplifi er will drive -IN to the same potential as +IN. A resistor (RIN) tied from V+ to -IN sets the output current IOUT = VSENSE/RIN. VSENSE is the voltage developed across RSENSE", 4 +IN (in) "Must be tied to the system load end of the sense resistor, either directly or through a resistor", 5 V+ (power) "Positive Supply Pin. The V+ pin should be connected directly to either side of the sense resistor, RSENSE. Supply current is drawn through this pin. The circuit may be confi gured so that the LT6106 supply current is or is (See Datasheet)"